# EAGLE library part M74HC251_MULTIPLEXER (library RS232Multiplexer)
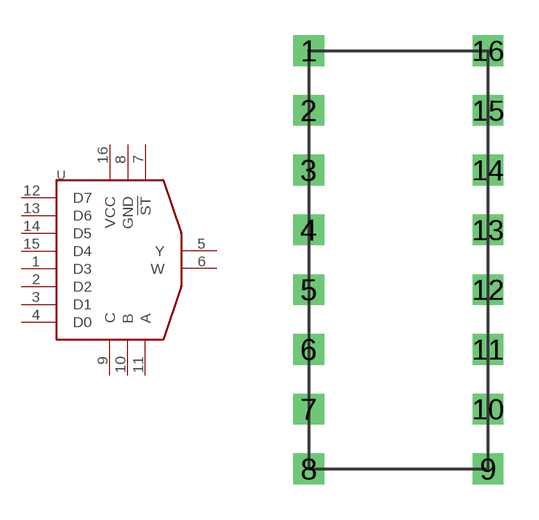
[diagram p0: symbol with the pads of GENERIC16; footprint GENERIC16]

Designator prefix -

## M74HC251_MULTIPLEXER  [GENERIC16]
1  D3
2  D2
3  D1
4  D0
5  Y
6  W
7  !ST
8  GND
9  C
10  B
11  A
12  D7
13  D6
14  D5
15  D4
16  VCC

## Footprint GENERIC16 (pad centres in mm)
drill 0.8 square: 1 0,17.78; 2 0,15.24; 3 0,12.7; 4 0,10.16; 5 0,7.62; 6 0,5.08; 7 0,2.54; 8 0,0; 9 7.62,0; 10 7.62,2.54; 11 7.62,5.08; 12 7.62,7.62; 13 7.62,10.16; 14 7.62,12.7; 15 7.62,15.24; 16 7.62,17.78